# EAGLE library part ST1W008S4A (library con-sd-card)
microSD Memory Card ST1 Series for TransFlashTM, JAE Electronics Ltd.
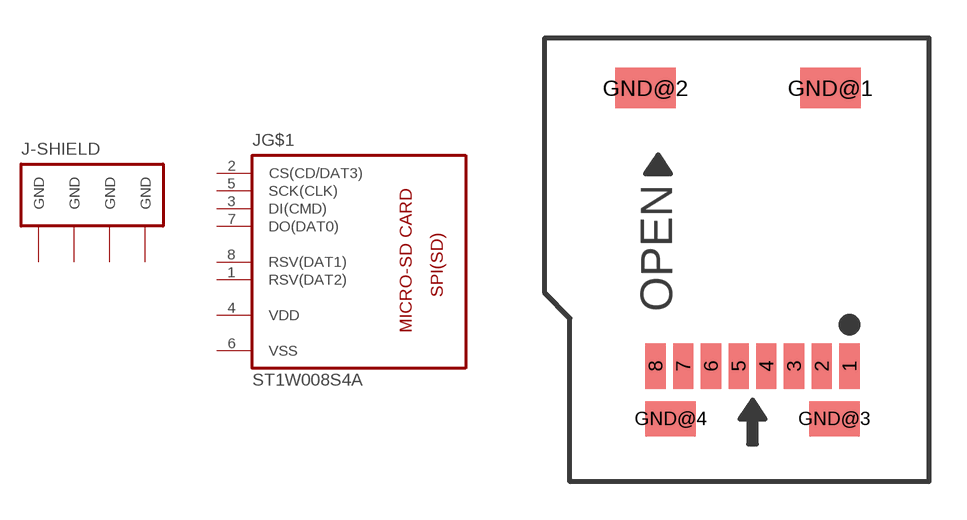
[diagram p0: symbol with the pads of ST1W008S4A; footprint ST1W008S4A]

Designator prefix J; gates G$1=SD-MICRO -SHIELD=GND_SHEILD4

## ST1W008S4A  [ST1W008S4A]
1  G$1:RSV(DAT2)
2  G$1:CS(CD/DAT3)
3  G$1:DI(CMD)
4  G$1:VDD  pwr
5  G$1:SCK(CLK)
6  G$1:VSS  pwr
7  G$1:DO(DAT0)
8  G$1:RSV(DAT1)
GND@1  -SHIELD:GND  pas
GND@2  -SHIELD:GND  pas
GND@3  -SHIELD:GND  pas
GND@4  -SHIELD:GND  pas

## Footprint ST1W008S4A (pad centres in mm)
ST1 Series, microSD hinge type JAE Electronics
smd 0.8 x 1.8: 1 3.85,-0.9; 2 2.75,-0.9; 3 1.65,-0.9; 4 0.55,-0.9; 5 -0.55,-0.9; 6 -1.65,-0.9; 7 -2.75,-0.9; 8 -3.85,-0.9
smd 2.4 x 1.6: GND@1 3.1,10.15; GND@2 -4.25,10.15
smd 2 x 1.4: GND@3 3.25,-3; GND@4 -3.25,-3